# Altium schematic symbol library Diode.SchLib: 2 symbols
Pins are listed as number, name and electrical type; pins without a type are passive.

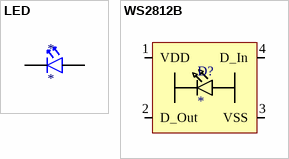
[diagram p0: symbols LED to WS2812B]

## LED
designator *
pins: 1 12, 2 13

## WS2812B
designator D?
pins: 1 VDD, 2 D_Out, 3 VSS, 4 D_In